# Altium schematic symbol library PCIE Express.SchLib: 1 symbol
Pins are listed as number, name and electrical type; pins without a type are passive.

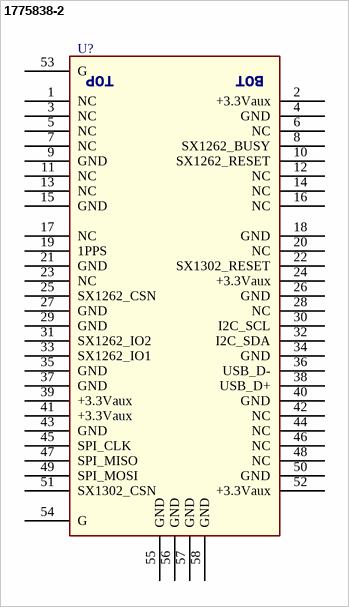
[diagram p0: symbol 1775838-2]

## 1775838-2
designator U?, comment 1759513-1  (value not drawn)
0.8MM MINI PCI EXPRESS CONNECTOR 9H
footprint TE_1775838-2
pins: 1 NC, 2 +3.3Vaux, 3 NC, 4 GND, 5 NC, 6 NC, 7 NC, 8 SX1262_BUSY, 9 GND, 10 SX1262_RESET, 11 NC, 12 NC, 13 NC, 14 NC, 15 GND, 16 NC, 17 NC, 18 GND, 19 1PPS, 20 NC, 21 GND, 22 SX1302_RESET, 23 NC, 24 +3.3Vaux, 25 SX1262_CSN, 26 GND, 27 GND, 28 NC, 29 GND, 30 I2C_SCL, 31 SX1262_IO2, 32 I2C_SDA, 33 SX1262_IO1, 34 GND, 35 GND, 36 USB_D-, 37 GND, 38 USB_D+, 39 +3.3Vaux, 40 GND, 41 +3.3Vaux, 42 NC, 43 GND, 44 NC, 45 SPI_CLK, 46 NC, 47 SPI_MISO, 48 NC, 49 SPI_MOSI, 50 GND, 51 SX1302_CSN, 52 +3.3Vaux, 53 G, 54 G, 55 GND, 56 GND, 57 GND, 58 GND
text: TOP; BOT